# Altium schematic symbol library Memory_RAM.SchLib: 45 symbols
Pins are listed as number, name and electrical type; pins without a type are passive.

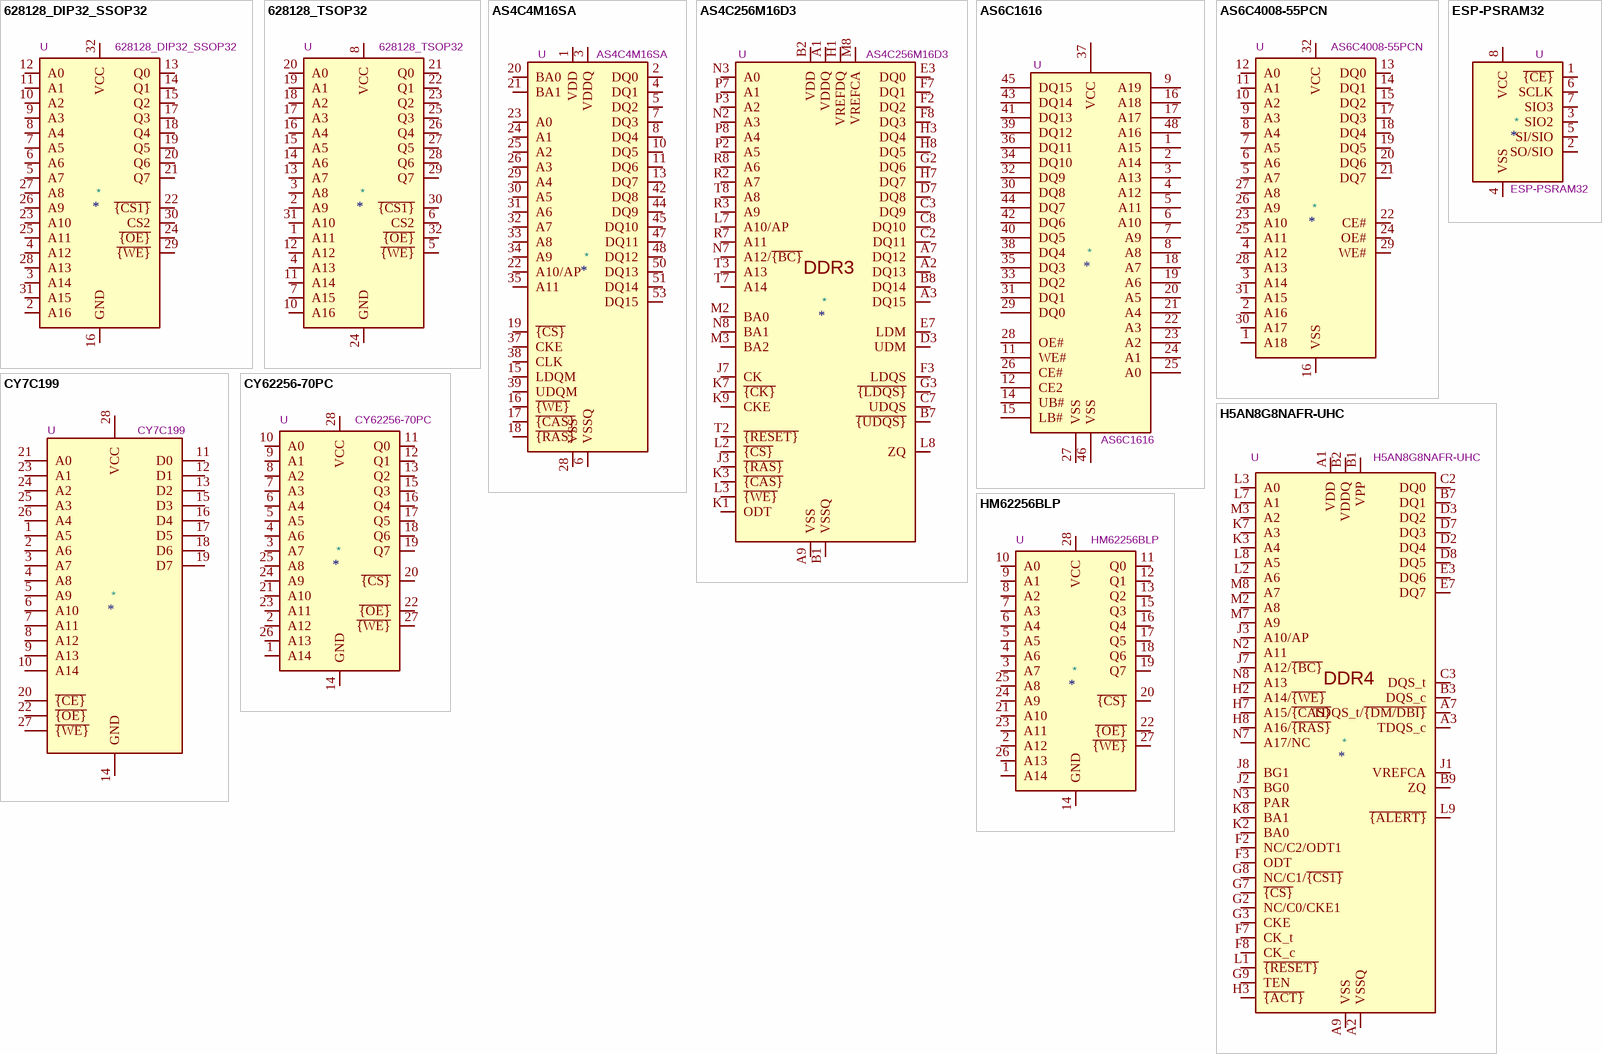
[diagram p0: symbols 628128_DIP32_SSOP32 to HM62256BLP]

## 628128_DIP32_SSOP32
designator *  value 628128_DIP32_SSOP32  Reference: U
ki_keywords: RAM SRAM CMOS MEMORY; ki_description: 128K x 8 High-Speed CMOS Static RAM, 55/70ns, DIP-32/SSOP-32; ki_fp_filters: DIP*W15.24mm* SSOP*11.305x20.495mm*P1.27mm*; Datasheet: http://www.futurlec.com/Datasheet/Memory/628128.pdf
pins: 1 NC hidden, 2 A16, 3 A14, 4 A12, 5 A7, 6 A6, 7 A5, 8 A4, 9 A3, 10 A2, 11 A1, 12 A0, 13 Q0, 14 Q1, 15 Q2, 16 GND, 17 Q3, 18 Q4, 19 Q5, 20 Q6, 21 Q7, 22 ~{{CS1}}, 23 A10, 24 ~{{OE}}, 25 A11, 26 A9, 27 A8, 28 A13, 29 ~{{WE}}, 30 CS2, 31 A15, 32 VCC

## 628128_TSOP32
designator *  value 628128_TSOP32  Reference: U
ki_keywords: RAM SRAM CMOS MEMORY; ki_description: 128K x 8 High-Speed CMOS Static RAM, 55/70ns, TSOP-I-32; ki_fp_filters: TSOP?I*11.8x8mm*P0.5mm* TSOP?I*18.4x8mm*P0.5mm*; Datasheet: http://www.futurlec.com/Datasheet/Memory/628128.pdf
pins: 1 A11, 2 A9, 3 A8, 4 A13, 5 ~{{WE}}, 6 CS2, 7 A15, 8 VCC, 9 NC hidden, 10 A16, 11 A14, 12 A12, 13 A7, 14 A6, 15 A5, 16 A4, 17 A3, 18 A2, 19 A1, 20 A0, 21 Q0, 22 Q1, 23 Q2, 24 GND, 25 Q3, 26 Q4, 27 Q5, 28 Q6, 29 Q7, 30 ~{{CS1}}, 31 A10, 32 ~{{OE}}

## AS4C4M16SA
designator *  value AS4C4M16SA  Reference: U
ki_keywords: SDRAM Synchronous DRAM PC166 PC143 64Mb 16Mbx4 MEMORY; ki_description: 64M – (4M x 16 bit) Synchronous DRAM (SDRAM), TSOP-II-54; ki_fp_filters: TSOP?II*22.2x10.16mm*P0.8mm*; Footprint: Package_SO:TSOP-II-54_22.2x10.16mm_P0.8mm; Datasheet: https://www.alliancememory.com/wp-content/uploads/pdf/dram/64M-AS4C4M16SA-CI_v3.0_March%202015.pdf
pins: 1 VDD, 2 DQ0, 3 VDDQ, 4 DQ1, 5 DQ2, 6 VSSQ, 7 DQ3, 8 DQ4, 9 VDDQ hidden, 10 DQ5, 11 DQ6, 12 VSSQ hidden, 13 DQ7, 14 VDD hidden, 15 LDQM, 16 ~{{WE}}, 17 ~{{CAS}}, 18 ~{{RAS}}, 19 ~{{CS}}, 20 BA0, 21 BA1, 22 A10/AP, 23 A0, 24 A1, 25 A2, 26 A3, 27 VDD hidden, 28 VSS, 29 A4, 30 A5, 31 A6, 32 A7, 33 A8, 34 A9, 35 A11, 36 NC hidden, 37 CKE, 38 CLK, 39 UDQM, 40 NC/RFU hidden, 41 VSS hidden, 42 DQ8, 43 VDDQ hidden, 44 DQ9, 45 DQ10, 46 VSSQ hidden, 47 DQ11, 48 DQ12, 49 VDDQ hidden, 50 DQ13, 51 DQ14, 52 VSSQ hidden, 53 DQ15, 54 VSS hidden

## AS4C256M16D3
designator *  value AS4C256M16D3  Reference: U
ki_keywords: DDR3 DRAM MEMORY; ki_description: 4Gb (256Mx16 bit) Double Data Rate 3 Synchronous DRAM; ki_fp_filters: BGA*9.0x13.0mm*P0.8mm*; Footprint: Package_BGA:BGA-96_9.0x13.0mm_Layout2x3x16_P0.8mm; Datasheet: https://www.alliancememory.com/wp-content/uploads/pdf/ddr3/4GB-AS4C256M16D3.pdf
pins: A1 VDDQ, A2 DQ13, A3 DQ15, A7 DQ12, A8 VDDQ hidden, A9 VSS, B1 VSSQ, B2 VDD, B3 VSS hidden, B7 ~{{UDQS}}, B8 DQ14, B9 VSSQ hidden, C1 VDDQ hidden, C2 DQ11, C3 DQ9, C7 UDQS, C8 DQ10, C9 VDDQ hidden, D1 VSSQ hidden, D2 VDDQ hidden, D3 UDM, D7 DQ8, D8 VSSQ hidden, D9 VDD hidden, E1 VSS hidden, E2 VSSQ hidden, E3 DQ0, E7 LDM, E8 VSSQ hidden, E9 VDDQ hidden, F1 VDDQ hidden, F2 DQ2, F3 LDQS, F7 DQ1, F8 DQ3, F9 VSSQ hidden, G1 VSSQ hidden, G2 DQ6, G3 ~{{LDQS}}, G7 VDD hidden, G8 VSS hidden, G9 VSSQ hidden, H1 VREFDQ, H2 VDDQ hidden, H3 DQ4, H7 DQ7, H8 DQ5, H9 VDDQ hidden, J1 NC hidden, J2 VSS hidden, J3 ~{{RAS}}, J7 CK, J8 VSS hidden, J9 NC hidden, K1 ODT, K2 VDD hidden, K3 ~{{CAS}}, K7 ~{{CK}}, K8 VDD hidden, K9 CKE, L1 NC hidden, L2 ~{{CS}}, L3 ~{{WE}}, L7 A10/AP, L8 ZQ, L9 NC hidden, M1 VSS hidden, M2 BA0, M3 BA2, M7 NC hidden, M8 VREFCA, M9 VSS hidden, N1 VDD hidden, N2 A3, N3 A0, N7 A12/~{{BC}}, N8 BA1, N9 VDD hidden, P1 VSS hidden, P2 A5, P3 A2, P7 A1, P8 A4, P9 VSS hidden, R1 VDD hidden, R2 A7, R3 A9, R7 A11, R8 A6, R9 VDD hidden, T1 VSS hidden, T2 ~{{RESET}}, T3 A13, T7 A14, T8 A8, T9 VSS hidden
text: DDR3

## AS6C1616
designator *  value AS6C1616  Reference: U
ki_keywords: memory SRAM; ki_description: 1024k x 16 bit low power CMOS SRAM; ki_fp_filters: TSOP?I*18.4x12mm*P0.5mm*; Footprint: Package_SO:TSOP-I-48_18.4x12mm_P0.5mm; Datasheet: https://www.alliancememory.com/wp-content/uploads/pdf/AS6C1616-TSOPI.pdf
pins: 1 A15, 2 A14, 3 A13, 4 A12, 5 A11, 6 A10, 7 A9, 8 A8, 9 A19, 10 NC hidden, 11 WE#, 12 CE2, 13 NC hidden, 14 UB#, 15 LB#, 16 A18, 17 A17, 18 A7, 19 A6, 20 A5, 21 A4, 22 A3, 23 A2, 24 A1, 25 A0, 26 CE#, 27 VSS, 28 OE#, 29 DQ0, 30 DQ8, 31 DQ1, 32 DQ9, 33 DQ2, 34 DQ10, 35 DQ3, 36 DQ11, 37 VCC, 38 DQ4, 39 DQ12, 40 DQ5, 41 DQ13, 42 DQ6, 43 DQ14, 44 DQ7, 45 DQ15, 46 VSS, 47 NC hidden, 48 A16

## AS6C4008-55PCN
designator *  value AS6C4008-55PCN  Reference: U
ki_keywords: RAM SRAM CMOS MEMORY; ki_description: 512K x 8 Low Power CMOS RAM, DIP-32; ki_fp_filters: DIP*W15.24mm*; Footprint: Package_DIP:DIP-32_W15.24mm; Datasheet: https://www.alliancememory.com/wp-content/uploads/pdf/AS6C4008.pdf
pins: 1 A18, 2 A16, 3 A14, 4 A12, 5 A7, 6 A6, 7 A5, 8 A4, 9 A3, 10 A2, 11 A1, 12 A0, 13 DQ0, 14 DQ1, 15 DQ2, 16 VSS, 17 DQ3, 18 DQ4, 19 DQ5, 20 DQ6, 21 DQ7, 22 CE#, 23 A10, 24 OE#, 25 A11, 26 A9, 27 A8, 28 A13, 29 WE#, 30 A17, 31 A15, 32 VCC

## CY7C199
designator *  value CY7C199  Reference: U
pins: 1 A5, 2 A6, 3 A7, 4 A8, 5 A9, 6 A10, 7 A11, 8 A12, 9 A13, 10 A14, 11 D0, 12 D1, 13 D2, 14 GND, 15 D3, 16 D4, 17 D5, 18 D6, 19 D7, 20 ~{{CE}}, 21 A0, 22 ~{{OE}}, 23 A1, 24 A2, 25 A3, 26 A4, 27 ~{{WE}}, 28 VCC

## CY62256-70PC
designator *  value CY62256-70PC  Reference: U
ki_keywords: RAM SRAM CMOS MEMORY; ki_description: 256K (32K x 8) Static RAM, 70ns, DIP-28; ki_fp_filters: DIP*W15.24mm*; Footprint: Package_DIP:DIP-28_W15.24mm; Datasheet: https://ecee.colorado.edu/~mcclurel/Cypress_SRAM_CY62256.pdf
pins: 1 A14, 2 A12, 3 A7, 4 A6, 5 A5, 6 A4, 7 A3, 8 A2, 9 A1, 10 A0, 11 Q0, 12 Q1, 13 Q2, 14 GND, 15 Q3, 16 Q4, 17 Q5, 18 Q6, 19 Q7, 20 ~{{CS}}, 21 A10, 22 ~{{OE}}, 23 A11, 24 A9, 25 A8, 26 A13, 27 ~{{WE}}, 28 VCC

## ESP-PSRAM32
designator *  value ESP-PSRAM32  Reference: U
ki_keywords: 32 Mbit serial pseudo SRAM MEMORY; ki_description: 32 Mbit serial pseudo SRAM device organized as 4Mx8 bits, 1.8 VCC, SOIC8 (SOP8); ki_fp_filters: SOIC*3.9x4.9mm?P1.27mm*; Footprint: Package_SO:SOIC-8_3.9x4.9mm_P1.27mm; Datasheet: https://www.espressif.com/sites/default/files/documentation/esp-psram32_datasheet_en.pdf
pins: 1 ~{{CE}}, 2 SO/SIO, 3 SIO2, 4 VSS, 5 SI/SIO, 6 SCLK, 7 SIO3, 8 VCC

## H5AN8G8NAFR-UHC
designator *  value H5AN8G8NAFR-UHC  Reference: U
ki_keywords: DDR4 DRAM MEMORY; ki_description: 8Gb CMOS Double Data Rate IV Synchronous RAM; ki_fp_filters: FBGA*7.5x11mm*P0.8mm*; Footprint: Package_BGA:FBGA-78_7.5x11mm_Layout2x3x13_P0.8mm; Datasheet: https://www.skhynix.com/product/filedata/fileDownload.do?seq=7687
pins: A1 VDD, A2 VSSQ, A3 TDQS_c, A7 TDQS_t/~{{DM/DBI}}, A8 VSSQ hidden, A9 VSS, B1 VPP, B2 VDDQ, B3 DQS_c, B7 DQ1, B8 VDDQ hidden, B9 ZQ, C1 VDDQ hidden, C2 DQ0, C3 DQS_t, C7 VDD hidden, C8 VSS hidden, C9 VDDQ hidden, D1 VSSQ hidden, D2 DQ4, D3 DQ2, D7 DQ3, D8 DQ5, D9 VSSQ hidden, E1 VSS hidden, E2 VDDQ hidden, E3 DQ6, E7 DQ7, E8 VDDQ hidden, E9 VSS hidden, F1 VDD hidden, F2 NC/C2/ODT1, F3 ODT, F7 CK_t, F8 CK_c, F9 VDD hidden, G1 VSS hidden, G2 NC/C0/CKE1, G3 CKE, G7 ~{{CS}}, G8 NC/C1/~{{CS1}}, G9 TEN, H1 VDD hidden, H2 A14/~{{WE}}, H3 ~{{ACT}}, H7 A15/~{{CAS}}, H8 A16/~{{RAS}}, H9 VSS hidden, J1 VREFCA, J2 BG0, J3 A10/AP, J7 A12/~{{BC}}, J8 BG1, J9 VDD hidden, K1 VSS hidden, K2 BA0, K3 A4, K7 A3, K8 BA1, K9 VSS hidden, L1 ~{{RESET}}, L2 A6, L3 A0, L7 A1, L8 A5, L9 ~{{ALERT}}, M1 VDD hidden, M2 A8, M3 A2, M7 A9, M8 A7, M9 VPP hidden, N1 VSS hidden, N2 A11, N3 PAR, N7 A17/NC, N8 A13, N9 VDD hidden
text: DDR4

## HM62256BLP
designator *  value HM62256BLP  Reference: U
ki_keywords: RAM SRAM CMOS MEMORY; ki_description: 32,768-word × 8-bit High Speed CMOS Static RAM, 70ns, DIP-28; ki_fp_filters: DIP*W15.24mm*; Footprint: Package_DIP:DIP-28_W15.24mm; Datasheet: https://web.mit.edu/6.115/www/document/62256.pdf
pins: 1 A14, 2 A12, 3 A7, 4 A6, 5 A5, 6 A4, 7 A3, 8 A2, 9 A1, 10 A0, 11 Q0, 12 Q1, 13 Q2, 14 GND, 15 Q3, 16 Q4, 17 Q5, 18 Q6, 19 Q7, 20 ~{{CS}}, 21 A10, 22 ~{{OE}}, 23 A11, 24 A9, 25 A8, 26 A13, 27 ~{{WE}}, 28 VCC

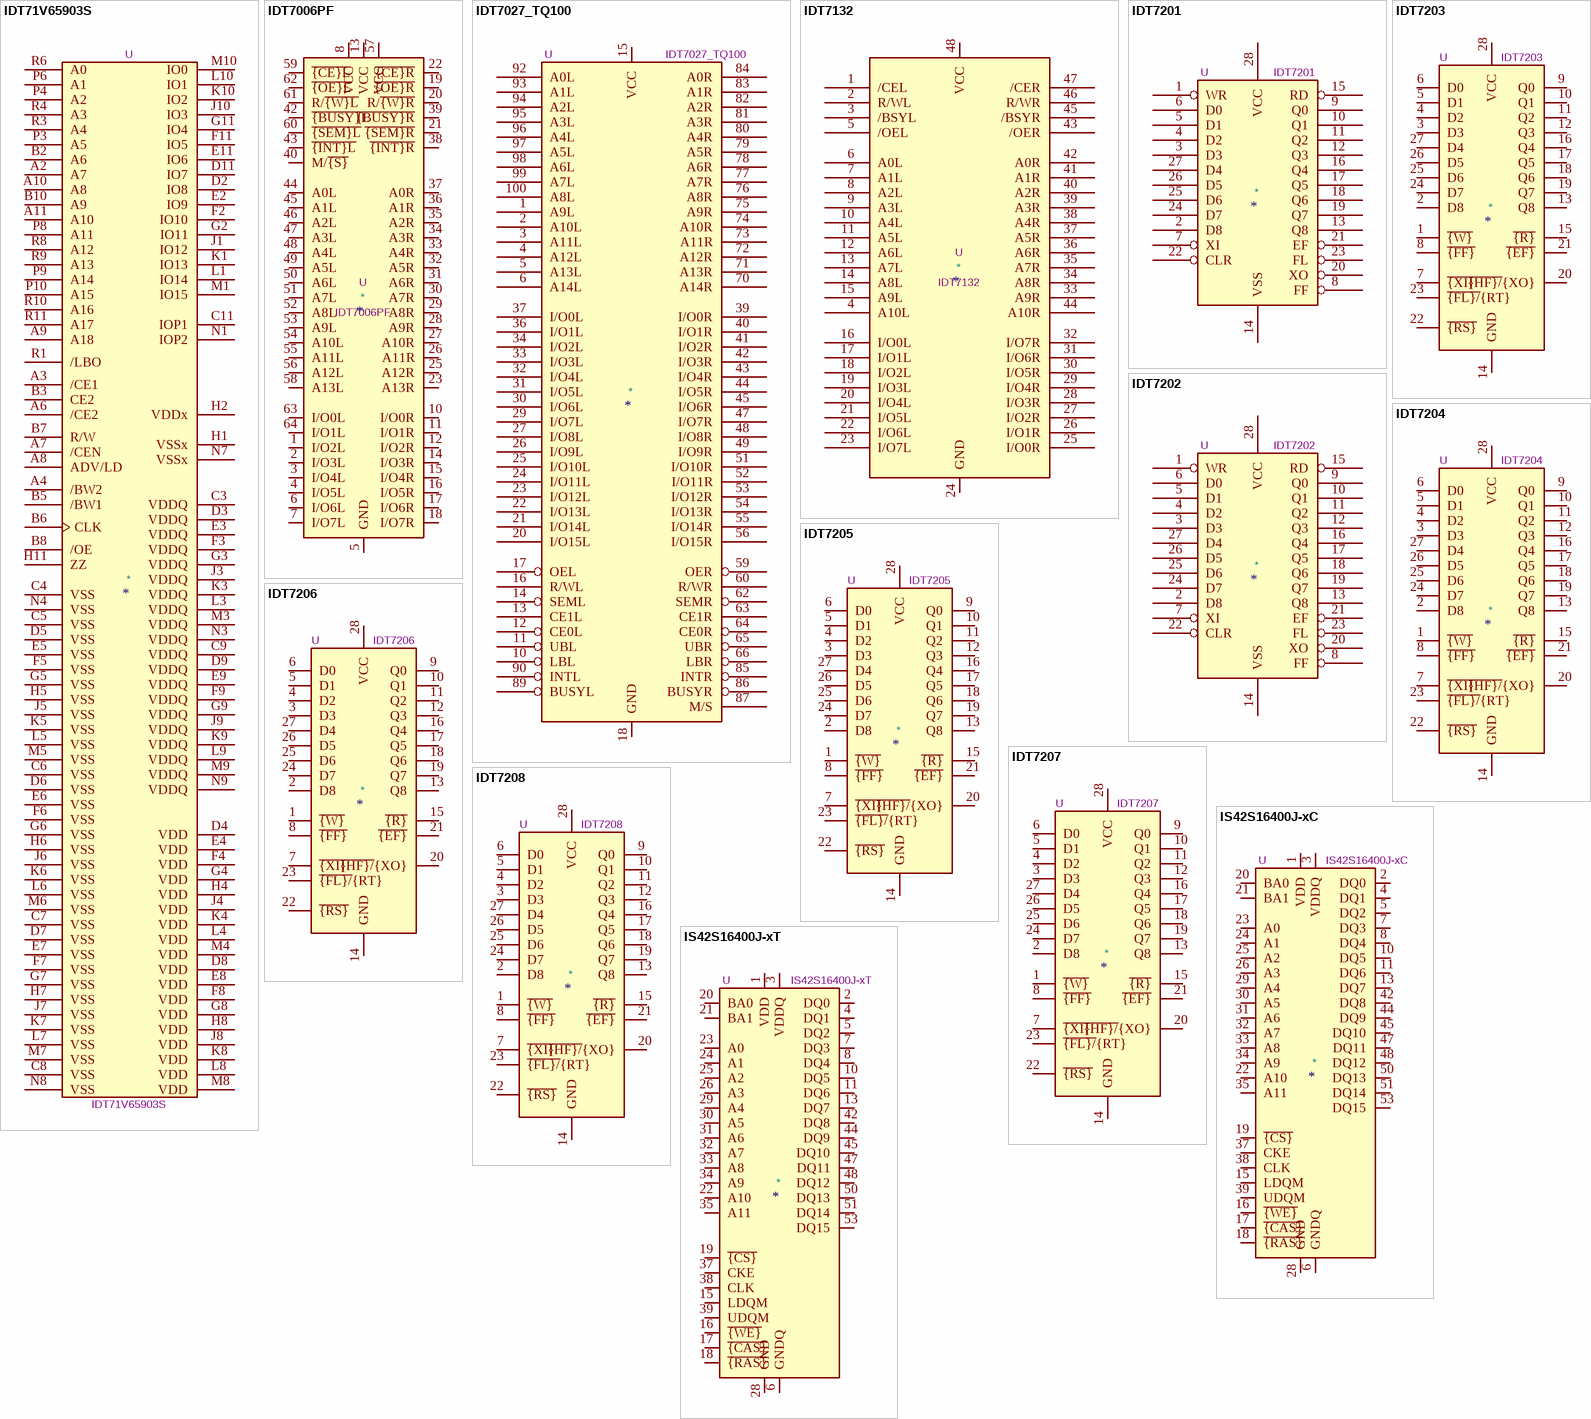
[diagram p1: symbols IDT71V65903S to IS42S16400J-xT]

## IDT71V65903S
designator *  value IDT71V65903S  Reference: U
ki_description: 165 pins BGA 3.3V high-speed 9 Megabit synchronous SRAMs 512K x 18 (or  256K x 36)
pins: A2 A7, A3 /CE1, A4 /BW2, A6 /CE2, A7 /CEN, A8 ADV/LD, A9 A18, A10 A8, A11 A10, B2 A6, B3 CE2, B5 /BW1, B6 CLK, B7 R/W, B8 /OE, B10 A9, C3 VDDQ, C4 VSS, C5 VSS, C6 VSS, C7 VSS, C8 VSS, C9 VDDQ, C11 IOP1, D2 IO8, D3 VDDQ, D4 VDD, D5 VSS, D6 VSS, D7 VSS, D8 VDD, D9 VDDQ, D11 IO7, E2 IO9, E3 VDDQ, E4 VDD, E5 VSS, E6 VSS, E7 VSS, E8 VDD, E9 VDDQ, E11 IO6, F2 IO10, F3 VDDQ, F4 VDD, F5 VSS, F6 VSS, F7 VSS, F8 VDD, F9 VDDQ, F11 IO5, G2 IO11, G3 VDDQ, G4 VDD, G5 VSS, G6 VSS, G7 VSS, G8 VDD, G9 VDDQ, G11 IO4, H1 VSSx, H2 VDDx, H4 VDD, H5 VSS, H6 VSS, H7 VSS, H8 VDD, H11 ZZ, J1 IO12, J3 VDDQ, J4 VDD, J5 VSS, J6 VSS, J7 VSS, J8 VDD, J9 VDDQ, J10 IO3, K1 IO13, K3 VDDQ, K4 VDD, K5 VSS, K6 VSS, K7 VSS, K8 VDD, K9 VDDQ, K10 IO2, L1 IO14, L3 VDDQ, L4 VDD, L5 VSS, L6 VSS, L7 VSS, L8 VDD, L9 VDDQ, L10 IO1, M1 IO15, M3 VDDQ, M4 VDD, M5 VSS, M6 VSS, M7 VSS, M8 VDD, M9 VDDQ, M10 IO0, N1 IOP2, N3 VDDQ, N4 VSS, N7 VSSx, N8 VSS, N9 VDDQ, P3 A5, P4 A2, P6 A1, P8 A11, P9 A14, P10 A15, R1 /LBO, R3 A4, R4 A3, R6 A0, R8 A12, R9 A13, R10 A16, R11 A17

## IDT7006PF
designator *  value IDT7006PF  Reference: U
ki_keywords: dual-port ram; ki_description: 16K x 8 Dual-Port SRAM, TQFP-64; ki_fp_filters: TQFP*14x14mm*P0.8mm*; Footprint: Package_QFP:TQFP-64_14x14mm_P0.8mm; Datasheet: https://www.idt.com/document/dst/7006-data-sheet
pins: 1 I/O2L, 2 I/O3L, 3 I/O4L, 4 I/O5L, 5 GND, 6 I/O6L, 7 I/O7L, 8 VCC, 9 GND hidden, 10 I/O0R, 11 I/O1R, 12 I/O2R, 13 VCC, 14 I/O3R, 15 I/O4R, 16 I/O5R, 17 I/O6R, 18 I/O7R, 19 ~{{OE}R}, 20 R/~{{W}R}, 21 ~{{SEM}R}, 22 ~{{CE}R}, 23 A13R, 24 GND hidden, 25 A12R, 26 A11R, 27 A10R, 28 A9R, 29 A8R, 30 A7R, 31 A6R, 32 A5R, 33 A4R, 34 A3R, 35 A2R, 36 A1R, 37 A0R, 38 ~{{INT}R}, 39 ~{{BUSY}R}, 40 M/~{{S}}, 41 GND hidden, 42 ~{{BUSY}L}, 43 ~{{INT}L}, 44 A0L, 45 A1L, 46 A2L, 47 A3L, 48 A4L, 49 A5L, 50 A6L, 51 A7L, 52 A8L, 53 A9L, 54 A10L, 55 A11L, 56 A12L, 57 VCC, 58 A13L, 59 ~{{CE}L}, 60 ~{{SEM}L}, 61 R/~{{W}L}, 62 ~{{OE}L}, 63 I/O0L, 64 I/O1L

## IDT7027_TQ100
designator *  value IDT7027_TQ100  Reference: U
pins: 1 A9L, 2 A10L, 3 A11L, 4 A12L, 5 A13L, 6 A14L, 10 LBL, 11 UBL, 12 CE0L, 13 CE1L, 14 SEML, 15 VCC, 16 R/WL, 17 OEL, 18 GND, 19 GND hidden, 20 I/O15L, 21 I/O14L, 22 I/O13L, 23 I/O12L, 24 I/O11L, 25 I/O10L, 26 I/O9L, 27 I/O8L, 28 VCC hidden, 29 I/O7L, 30 I/O6L, 31 I/O5L, 32 I/O4L, 33 I/O3L, 34 I/O2L, 35 GND hidden, 36 I/O1L, 37 I/O0L, 38 GND hidden, 39 I/O0R, 40 I/O1R, 41 I/O2R, 42 I/O3R, 43 I/O4R, 44 I/O5R, 45 I/O6R, 46 VCC hidden, 47 I/O7R, 48 I/O8R, 49 I/O9R, 51 I/O10R, 52 I/O11R, 53 I/O12R, 54 I/O13R, 55 I/O14R, 56 I/O15R, 57 GND hidden, 58 GND hidden, 59 OER, 60 R/WR, 61 GND hidden, 62 SEMR, 63 CE1R, 64 CE0R, 65 UBR, 66 LBR, 70 A14R, 71 A13R, 72 A12R, 73 A11R, 74 A10R, 75 A9R, 76 A8R, 77 A7R, 78 A6R, 79 A5R, 80 A4R, 81 A3R, 82 A2R, 83 A1R, 84 A0R, 85 INTR, 86 BUSYR, 87 M/S, 88 GND hidden, 89 BUSYL, 90 INTL, 92 A0L, 93 A1L, 94 A2L, 95 A3L, 96 A4L, 97 A5L, 98 A6L, 99 A7L, 100 A8L

## IDT7132
designator *  value IDT7132  Reference: U
pins: 1 /CEL, 2 R/WL, 3 /BSYL, 4 A10L, 5 /OEL, 6 A0L, 7 A1L, 8 A2L, 9 A3L, 10 A4L, 11 A5L, 12 A6L, 13 A7L, 14 A8L, 15 A9L, 16 I/O0L, 17 I/O1L, 18 I/O2L, 19 I/O3L, 20 I/O4L, 21 I/O5L, 22 I/O6L, 23 I/O7L, 24 GND, 25 I/O0R, 26 I/O1R, 27 I/O2R, 28 I/O3R, 29 I/O4R, 30 I/O5R, 31 I/O6R, 32 I/O7R, 33 A9R, 34 A8R, 35 A7R, 36 A6R, 37 A5R, 38 A4R, 39 A3R, 40 A2R, 41 A1R, 42 A0R, 43 /OER, 44 A10R, 45 /BSYR, 46 R/WR, 47 /CER, 48 VCC

## IDT7201
designator *  value IDT7201  Reference: U
pins: 1 WR, 2 D8, 3 D3, 4 D2, 5 D1, 6 D0, 7 XI, 8 FF, 9 Q0, 10 Q1, 11 Q2, 12 Q3, 13 Q8, 14 VSS, 15 RD, 16 Q4, 17 Q5, 18 Q6, 19 Q7, 20 XO, 21 EF, 22 CLR, 23 FL, 24 D7, 25 D6, 26 D5, 27 D4, 28 VCC

## IDT7202
designator *  value IDT7202  Reference: U
pins: 1 WR, 2 D8, 3 D3, 4 D2, 5 D1, 6 D0, 7 XI, 8 FF, 9 Q0, 10 Q1, 11 Q2, 12 Q3, 13 Q8, 14 VSS, 15 RD, 16 Q4, 17 Q5, 18 Q6, 19 Q7, 20 XO, 21 EF, 22 CLR, 23 FL, 24 D7, 25 D6, 26 D5, 27 D4, 28 VCC

## IDT7203
designator *  value IDT7203  Reference: U
ki_keywords: asynchronous fifo memory; ki_description: 2048x9 CMOS Asynchronous FIFO, DIP-28; ki_fp_filters: DIP*7.62mm*; Footprint: Package_DIP:DIP-28_W7.62mm; Datasheet: http://www.idt.com/document/7203-7208-datasheet
pins: 1 ~{{W}}, 2 D8, 3 D3, 4 D2, 5 D1, 6 D0, 7 ~{{XI}}, 8 ~{{FF}}, 9 Q0, 10 Q1, 11 Q2, 12 Q3, 13 Q8, 14 GND, 15 ~{{R}}, 16 Q4, 17 Q5, 18 Q6, 19 Q7, 20 ~{{HF}/}{XO}, 21 ~{{EF}}, 22 ~{{RS}}, 23 ~{{FL}/}{RT}, 24 D7, 25 D6, 26 D5, 27 D4, 28 VCC

## IDT7204
designator *  value IDT7204  Reference: U
ki_keywords: asynchronous fifo memory; ki_description: 4096x9 CMOS Asynchronous FIFO, DIP-28; ki_fp_filters: DIP*7.62mm*; Footprint: Package_DIP:DIP-28_W7.62mm; Datasheet: http://www.idt.com/document/7203-7208-datasheet
pins: 1 ~{{W}}, 2 D8, 3 D3, 4 D2, 5 D1, 6 D0, 7 ~{{XI}}, 8 ~{{FF}}, 9 Q0, 10 Q1, 11 Q2, 12 Q3, 13 Q8, 14 GND, 15 ~{{R}}, 16 Q4, 17 Q5, 18 Q6, 19 Q7, 20 ~{{HF}/}{XO}, 21 ~{{EF}}, 22 ~{{RS}}, 23 ~{{FL}/}{RT}, 24 D7, 25 D6, 26 D5, 27 D4, 28 VCC

## IDT7205
designator *  value IDT7205  Reference: U
ki_keywords: asynchronous fifo memory; ki_description: 8192x9 CMOS Asynchronous FIFO, DIP-28; ki_fp_filters: DIP*7.62mm*; Footprint: Package_DIP:DIP-28_W7.62mm; Datasheet: http://www.idt.com/document/7203-7208-datasheet
pins: 1 ~{{W}}, 2 D8, 3 D3, 4 D2, 5 D1, 6 D0, 7 ~{{XI}}, 8 ~{{FF}}, 9 Q0, 10 Q1, 11 Q2, 12 Q3, 13 Q8, 14 GND, 15 ~{{R}}, 16 Q4, 17 Q5, 18 Q6, 19 Q7, 20 ~{{HF}/}{XO}, 21 ~{{EF}}, 22 ~{{RS}}, 23 ~{{FL}/}{RT}, 24 D7, 25 D6, 26 D5, 27 D4, 28 VCC

## IDT7206
designator *  value IDT7206  Reference: U
ki_keywords: asynchronous fifo memory; ki_description: 16384x9 CMOS Asynchronous FIFO, DIP-28; ki_fp_filters: DIP*7.62mm*; Footprint: Package_DIP:DIP-28_W7.62mm; Datasheet: http://www.idt.com/document/7203-7208-datasheet
pins: 1 ~{{W}}, 2 D8, 3 D3, 4 D2, 5 D1, 6 D0, 7 ~{{XI}}, 8 ~{{FF}}, 9 Q0, 10 Q1, 11 Q2, 12 Q3, 13 Q8, 14 GND, 15 ~{{R}}, 16 Q4, 17 Q5, 18 Q6, 19 Q7, 20 ~{{HF}/}{XO}, 21 ~{{EF}}, 22 ~{{RS}}, 23 ~{{FL}/}{RT}, 24 D7, 25 D6, 26 D5, 27 D4, 28 VCC

## IDT7207
designator *  value IDT7207  Reference: U
ki_keywords: asynchronous fifo memory; ki_description: 32768x9 CMOS Asynchronous FIFO, DIP-28; ki_fp_filters: DIP*7.62mm*; Footprint: Package_DIP:DIP-28_W7.62mm; Datasheet: http://www.idt.com/document/7203-7208-datasheet
pins: 1 ~{{W}}, 2 D8, 3 D3, 4 D2, 5 D1, 6 D0, 7 ~{{XI}}, 8 ~{{FF}}, 9 Q0, 10 Q1, 11 Q2, 12 Q3, 13 Q8, 14 GND, 15 ~{{R}}, 16 Q4, 17 Q5, 18 Q6, 19 Q7, 20 ~{{HF}/}{XO}, 21 ~{{EF}}, 22 ~{{RS}}, 23 ~{{FL}/}{RT}, 24 D7, 25 D6, 26 D5, 27 D4, 28 VCC

## IDT7208
designator *  value IDT7208  Reference: U
ki_keywords: asynchronous fifo memory; ki_description: 65536x9 CMOS Asynchronous FIFO, DIP-28; ki_fp_filters: DIP*7.62mm*; Footprint: Package_DIP:DIP-28_W7.62mm; Datasheet: http://www.idt.com/document/7203-7208-datasheet
pins: 1 ~{{W}}, 2 D8, 3 D3, 4 D2, 5 D1, 6 D0, 7 ~{{XI}}, 8 ~{{FF}}, 9 Q0, 10 Q1, 11 Q2, 12 Q3, 13 Q8, 14 GND, 15 ~{{R}}, 16 Q4, 17 Q5, 18 Q6, 19 Q7, 20 ~{{HF}/}{XO}, 21 ~{{EF}}, 22 ~{{RS}}, 23 ~{{FL}/}{RT}, 24 D7, 25 D6, 26 D5, 27 D4, 28 VCC

## IS42S16400J-xC
designator *  value IS42S16400J-xC  Reference: U
ki_keywords: DRAM MEMORY; ki_description: 64Mb Synchronous DRAM, 1 Mb x 16 b x 4 Banks, Cu leadframe plated with matte Sn, TSOP-II-54; ki_fp_filters: TSOP?II*22.2x10.16mm*P0.8mm*; Footprint: Package_SO:TSOP-II-54_22.2x10.16mm_P0.8mm; Datasheet: http://www.issi.com/WW/pdf/42-45S16400J.pdf
pins: 1 VDD, 2 DQ0, 3 VDDQ, 4 DQ1, 5 DQ2, 6 GNDQ, 7 DQ3, 8 DQ4, 9 VDDQ hidden, 10 DQ5, 11 DQ6, 12 GNDQ hidden, 13 DQ7, 14 VDD hidden, 15 LDQM, 16 ~{{WE}}, 17 ~{{CAS}}, 18 ~{{RAS}}, 19 ~{{CS}}, 20 BA0, 21 BA1, 22 A10, 23 A0, 24 A1, 25 A2, 26 A3, 27 VDD hidden, 28 GND, 29 A4, 30 A5, 31 A6, 32 A7, 33 A8, 34 A9, 35 A11, 36 NC hidden, 37 CKE, 38 CLK, 39 UDQM, 40 NC hidden, 41 GND hidden, 42 DQ8, 43 VDDQ hidden, 44 DQ9, 45 DQ10, 46 GNDQ hidden, 47 DQ11, 48 DQ12, 49 VDDQ hidden, 50 DQ13, 51 DQ14, 52 GNDQ hidden, 53 DQ15, 54 GND hidden

## IS42S16400J-xT
designator *  value IS42S16400J-xT  Reference: U
ki_keywords: DRAM MEMORY; ki_description: 64Mb Synchronous DRAM, 1 Mb x 16 b x 4 Banks, Alloy42 leadframe plated with matte Sn, TSOP-II-54; ki_fp_filters: TSOP?II*22.2x10.16mm*P0.8mm*; Footprint: Package_SO:TSOP-II-54_22.2x10.16mm_P0.8mm; Datasheet: http://www.issi.com/WW/pdf/42-45S16400J.pdf
pins: 1 VDD, 2 DQ0, 3 VDDQ, 4 DQ1, 5 DQ2, 6 GNDQ, 7 DQ3, 8 DQ4, 9 VDDQ hidden, 10 DQ5, 11 DQ6, 12 GNDQ hidden, 13 DQ7, 14 VDD hidden, 15 LDQM, 16 ~{{WE}}, 17 ~{{CAS}}, 18 ~{{RAS}}, 19 ~{{CS}}, 20 BA0, 21 BA1, 22 A10, 23 A0, 24 A1, 25 A2, 26 A3, 27 VDD hidden, 28 GND, 29 A4, 30 A5, 31 A6, 32 A7, 33 A8, 34 A9, 35 A11, 36 NC hidden, 37 CKE, 38 CLK, 39 UDQM, 40 NC hidden, 41 GND hidden, 42 DQ8, 43 VDDQ hidden, 44 DQ9, 45 DQ10, 46 GNDQ hidden, 47 DQ11, 48 DQ12, 49 VDDQ hidden, 50 DQ13, 51 DQ14, 52 GNDQ hidden, 53 DQ15, 54 GND hidden

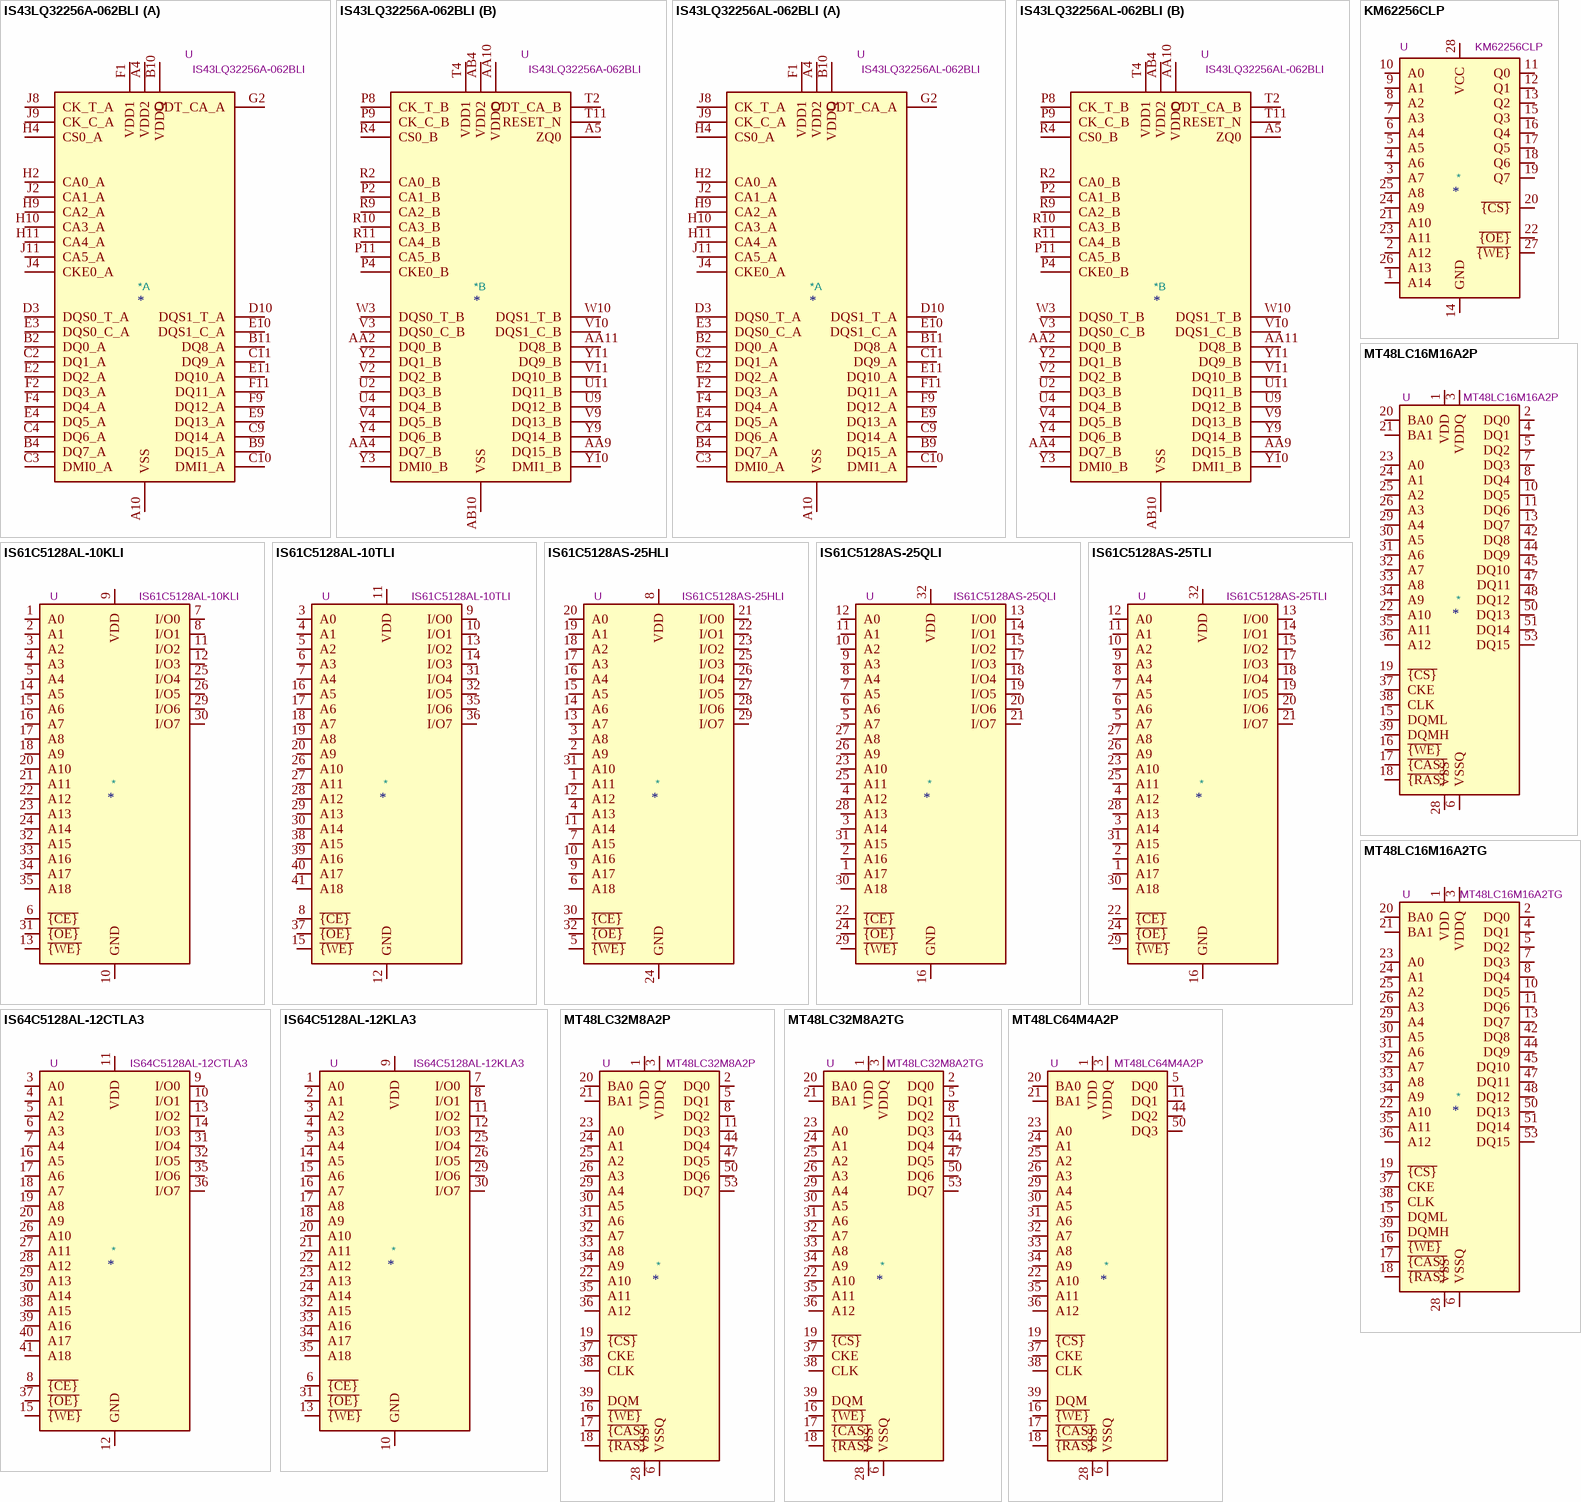
[diagram p2: symbols IS43LQ32256A-062BLI to MT48LC64M4A2P]

## IS43LQ32256A-062BLI
designator *  value IS43LQ32256A-062BLI  Reference: U
ki_keywords: DRAM MEMORY; ki_description: 256Mx32 bit Low Power Double Data Rate 4 (LPDDR4) SDRAM, 1600 MHz, Industrial, BGA-200; ki_fp_filters: BGA*10.0x14.5mm*P0.80x0.65mm*; Footprint: Package_BGA:BGA-200_10.0x14.5mm_Layout12x22_P0.80x0.65mm; Datasheet: http://www.issi.com/WW/pdf/43-46LQ32256A-AL.pdf
part A pins: A1 DNU hidden, A2 DNU hidden, A3 VSS hidden, A4 VDD2, A9 VDD2 hidden, A10 VSS, A11 DNU hidden, A12 DNU hidden, B1 DNU hidden, B2 DQ0_A, B3 VDDQ hidden, B4 DQ7_A, B5 VDDQ hidden, B8 VDDQ hidden, B9 DQ15_A, B10 VDDQ, B11 DQ8_A, B12 DNU hidden, C1 VSS hidden, C2 DQ1_A, C3 DMI0_A, C4 DQ6_A, C5 VSS hidden, C8 VSS hidden, C9 DQ14_A, C10 DMI1_A, C11 DQ9_A, C12 VSS hidden, D1 VDDQ hidden, D2 VSS hidden, D3 DQS0_T_A, D4 VSS hidden, D5 VDDQ hidden, D8 VDDQ hidden, D9 VSS hidden, D10 DQS1_T_A, D11 VSS hidden, D12 VDDQ hidden, E1 VSS hidden, E2 DQ2_A, E3 DQS0_C_A, E4 DQ5_A, E5 VSS hidden, E8 VSS hidden, E9 DQ13_A, E10 DQS1_C_A, E11 DQ10_A, E12 VSS hidden, F1 VDD1, F2 DQ3_A, F3 VDDQ hidden, F4 DQ4_A, F5 VDD2 hidden, F8 VDD2 hidden, F9 DQ12_A, F10 VDDQ hidden, F11 DQ11_A, F12 VDD1 hidden, G1 VSS hidden, G2 ODT_CA_A, G3 VSS hidden, G4 VDD1 hidden, G5 VSS hidden, G8 VSS hidden, G9 VDD1 hidden, G10 VSS hidden, G12 VSS hidden, H1 VDD2 hidden, H2 CA0_A, H3 NC hidden, H4 CS0_A, H5 VDD2 hidden, H8 VDD2 hidden, H9 CA2_A, H10 CA3_A, H11 CA4_A, H12 VDD2 hidden, J1 VSS hidden, J2 CA1_A, J3 VSS hidden, J4 CKE0_A, J5 NC hidden, J8 CK_T_A, J9 CK_C_A, J10 VSS hidden, J11 CA5_A, J12 VSS hidden, K1 VDD2 hidden, K2 VSS hidden, K3 VDD2 hidden, K4 VSS hidden, K5 NC hidden, K8 NC hidden, K9 VSS hidden, K10 VDD2 hidden, K11 VSS hidden, K12 VDD2 hidden
part B pins: A5 ZQ0, A8 NC hidden, AA1 DNU hidden, AA2 DQ0_B, AA3 VDDQ hidden, AA4 DQ7_B, AA5 VDDQ hidden, AA8 VDDQ hidden, AA9 DQ15_B, AA10 VDDQ, AA11 DQ8_B, AA12 DNU hidden, AB1 DNU hidden, AB2 DNU hidden, AB3 VSS hidden, AB4 VDD2, AB5 VSS hidden, AB8 VSS hidden, AB9 VDD2 hidden, AB10 VSS, AB11 DNU hidden, AB12 DNU hidden, G11 NC hidden, N1 VDD2 hidden, N2 VSS hidden, N3 VDD2 hidden, N4 VSS hidden, N5 NC hidden, N8 NC hidden, N9 VSS hidden, N10 VDD2 hidden, N11 VSS hidden, N12 VDD2 hidden, P1 VSS hidden, P2 CA1_B, P3 VSS hidden, P4 CKE0_B, P5 NC hidden, P8 CK_T_B, P9 CK_C_B, P10 VSS hidden, P11 CA5_B, P12 VSS hidden, R1 VDD2 hidden, R2 CA0_B, R3 NC hidden, R4 CS0_B, R5 VDD2 hidden, R8 VDD2 hidden, R9 CA2_B, R10 CA3_B, R11 CA4_B, R12 VDD2 hidden, T1 VSS hidden, T2 ODT_CA_B, T3 VSS hidden, T4 VDD1, T5 VSS hidden, T8 VSS hidden, T9 VDD1 hidden, T10 VSS hidden, T11 RESET_N, T12 VSS hidden, U1 VDD1 hidden, U2 DQ3_B, U3 VDDQ hidden, U4 DQ4_B, U5 VDD2 hidden, U8 VDD2 hidden, U9 DQ12_B, U10 VDDQ hidden, U11 DQ11_B, U12 VDD1 hidden, V1 VSS hidden, V2 DQ2_B, V3 DQS0_C_B, V4 DQ5_B, V5 VSS hidden, V8 VSS hidden, V9 DQ13_B, V10 DQS1_C_B, V11 DQ10_B, V12 VSS hidden, W1 VDDQ hidden, W2 VSS hidden, W3 DQS0_T_B, W4 VSS hidden, W5 VDDQ hidden, W8 VDDQ hidden, W9 VSS hidden, W10 DQS1_T_B, W11 VSS hidden, W12 VDDQ hidden, Y1 VSS hidden, Y2 DQ1_B, Y3 DMI0_B, Y4 DQ6_B, Y5 VSS hidden, Y8 VSS hidden, Y9 DQ14_B, Y10 DMI1_B, Y11 DQ9_B, Y12 VSS hidden

## IS43LQ32256AL-062BLI
designator *  value IS43LQ32256AL-062BLI  Reference: U
ki_keywords: DRAM MEMORY; ki_description: 256Mx32 bit Low Power Double Data Rate 4X (LPDDR4X) SDRAM, 1600 MHz, Industrial, BGA-200; ki_fp_filters: BGA*10.0x14.5mm*P0.80x0.65mm*; Footprint: Package_BGA:BGA-200_10.0x14.5mm_Layout12x22_P0.80x0.65mm; Datasheet: http://www.issi.com/WW/pdf/43-46LQ32256AL-AL.pdf
part A pins: A1 DNU hidden, A2 DNU hidden, A3 VSS hidden, A4 VDD2, A9 VDD2 hidden, A10 VSS, A11 DNU hidden, A12 DNU hidden, B1 DNU hidden, B2 DQ0_A, B3 VDDQ hidden, B4 DQ7_A, B5 VDDQ hidden, B8 VDDQ hidden, B9 DQ15_A, B10 VDDQ, B11 DQ8_A, B12 DNU hidden, C1 VSS hidden, C2 DQ1_A, C3 DMI0_A, C4 DQ6_A, C5 VSS hidden, C8 VSS hidden, C9 DQ14_A, C10 DMI1_A, C11 DQ9_A, C12 VSS hidden, D1 VDDQ hidden, D2 VSS hidden, D3 DQS0_T_A, D4 VSS hidden, D5 VDDQ hidden, D8 VDDQ hidden, D9 VSS hidden, D10 DQS1_T_A, D11 VSS hidden, D12 VDDQ hidden, E1 VSS hidden, E2 DQ2_A, E3 DQS0_C_A, E4 DQ5_A, E5 VSS hidden, E8 VSS hidden, E9 DQ13_A, E10 DQS1_C_A, E11 DQ10_A, E12 VSS hidden, F1 VDD1, F2 DQ3_A, F3 VDDQ hidden, F4 DQ4_A, F5 VDD2 hidden, F8 VDD2 hidden, F9 DQ12_A, F10 VDDQ hidden, F11 DQ11_A, F12 VDD1 hidden, G1 VSS hidden, G2 ODT_CA_A, G3 VSS hidden, G4 VDD1 hidden, G5 VSS hidden, G8 VSS hidden, G9 VDD1 hidden, G10 VSS hidden, G12 VSS hidden, H1 VDD2 hidden, H2 CA0_A, H3 NC hidden, H4 CS0_A, H5 VDD2 hidden, H8 VDD2 hidden, H9 CA2_A, H10 CA3_A, H11 CA4_A, H12 VDD2 hidden, J1 VSS hidden, J2 CA1_A, J3 VSS hidden, J4 CKE0_A, J5 NC hidden, J8 CK_T_A, J9 CK_C_A, J10 VSS hidden, J11 CA5_A, J12 VSS hidden, K1 VDD2 hidden, K2 VSS hidden, K3 VDD2 hidden, K4 VSS hidden, K5 NC hidden, K8 NC hidden, K9 VSS hidden, K10 VDD2 hidden, K11 VSS hidden, K12 VDD2 hidden
part B pins: A5 ZQ0, A8 NC hidden, AA1 DNU hidden, AA2 DQ0_B, AA3 VDDQ hidden, AA4 DQ7_B, AA5 VDDQ hidden, AA8 VDDQ hidden, AA9 DQ15_B, AA10 VDDQ, AA11 DQ8_B, AA12 DNU hidden, AB1 DNU hidden, AB2 DNU hidden, AB3 VSS hidden, AB4 VDD2, AB5 VSS hidden, AB8 VSS hidden, AB9 VDD2 hidden, AB10 VSS, AB11 DNU hidden, AB12 DNU hidden, G11 NC hidden, N1 VDD2 hidden, N2 VSS hidden, N3 VDD2 hidden, N4 VSS hidden, N5 NC hidden, N8 NC hidden, N9 VSS hidden, N10 VDD2 hidden, N11 VSS hidden, N12 VDD2 hidden, P1 VSS hidden, P2 CA1_B, P3 VSS hidden, P4 CKE0_B, P5 NC hidden, P8 CK_T_B, P9 CK_C_B, P10 VSS hidden, P11 CA5_B, P12 VSS hidden, R1 VDD2 hidden, R2 CA0_B, R3 NC hidden, R4 CS0_B, R5 VDD2 hidden, R8 VDD2 hidden, R9 CA2_B, R10 CA3_B, R11 CA4_B, R12 VDD2 hidden, T1 VSS hidden, T2 ODT_CA_B, T3 VSS hidden, T4 VDD1, T5 VSS hidden, T8 VSS hidden, T9 VDD1 hidden, T10 VSS hidden, T11 RESET_N, T12 VSS hidden, U1 VDD1 hidden, U2 DQ3_B, U3 VDDQ hidden, U4 DQ4_B, U5 VDD2 hidden, U8 VDD2 hidden, U9 DQ12_B, U10 VDDQ hidden, U11 DQ11_B, U12 VDD1 hidden, V1 VSS hidden, V2 DQ2_B, V3 DQS0_C_B, V4 DQ5_B, V5 VSS hidden, V8 VSS hidden, V9 DQ13_B, V10 DQS1_C_B, V11 DQ10_B, V12 VSS hidden, W1 VDDQ hidden, W2 VSS hidden, W3 DQS0_T_B, W4 VSS hidden, W5 VDDQ hidden, W8 VDDQ hidden, W9 VSS hidden, W10 DQS1_T_B, W11 VSS hidden, W12 VDDQ hidden, Y1 VSS hidden, Y2 DQ1_B, Y3 DMI0_B, Y4 DQ6_B, Y5 VSS hidden, Y8 VSS hidden, Y9 DQ14_B, Y10 DMI1_B, Y11 DQ9_B, Y12 VSS hidden

## IS61C5128AL-10KLI
designator *  value IS61C5128AL-10KLI  Reference: U
ki_keywords: SRAM MEMORY; ki_description: 512K x 8 HIGH-SPEED CMOS STATIC RAM, 10ns, SOJ-36; ki_fp_filters: SOJ*10.16x23.49mm*P1.27mm*; Footprint: Package_SO:SOJ-36_10.16x23.49mm_P1.27mm; Datasheet: http://www.issi.com/WW/pdf/61-64C5128AL.pdf
pins: 1 A0, 2 A1, 3 A2, 4 A3, 5 A4, 6 ~{{CE}}, 7 I/O0, 8 I/O1, 9 VDD, 10 GND, 11 I/O2, 12 I/O3, 13 ~{{WE}}, 14 A5, 15 A6, 16 A7, 17 A8, 18 A9, 19 NC hidden, 20 A10, 21 A11, 22 A12, 23 A13, 24 A14, 25 I/O4, 26 I/O5, 27 VDD hidden, 28 GND hidden, 29 I/O6, 30 I/O7, 31 ~{{OE}}, 32 A15, 33 A16, 34 A17, 35 A18, 36 NC hidden

## IS61C5128AL-10TLI
designator *  value IS61C5128AL-10TLI  Reference: U
ki_keywords: SRAM MEMORY; ki_description: 512K x 8 HIGH-SPEED CMOS STATIC RAM, 10ns, TSOP II-44; ki_fp_filters: TSOP*10.16x18.41mm*P0.8mm*; Footprint: Package_SO:TSOP-II-44_10.16x18.41mm_P0.8mm; Datasheet: http://www.issi.com/WW/pdf/61-64C5128AL.pdf
pins: 1 NC hidden, 2 NC hidden, 3 A0, 4 A1, 5 A2, 6 A3, 7 A4, 8 ~{{CE}}, 9 I/O0, 10 I/O1, 11 VDD, 12 GND, 13 I/O2, 14 I/O3, 15 ~{{WE}}, 16 A5, 17 A6, 18 A7, 19 A8, 20 A9, 21 NC hidden, 22 NC hidden, 23 NC hidden, 24 NC hidden, 25 NC hidden, 26 A10, 27 A11, 28 A12, 29 A13, 30 A14, 31 I/O4, 32 I/O5, 33 VDD hidden, 34 GND hidden, 35 I/O6, 36 I/O7, 37 ~{{OE}}, 38 A15, 39 A16, 40 A17, 41 A18, 42 NC hidden, 43 NC hidden, 44 NC hidden

## IS61C5128AS-25HLI
designator *  value IS61C5128AS-25HLI  Reference: U
ki_keywords: SRAM MEMORY; ki_description: 512K x 8 HIGH-SPEED CMOS STATIC RAM, 25ns, STSOP I-32; ki_fp_filters: TSOP*11.8x8mm*P0.5mm*; Footprint: Package_SO:TSOP-I-32_11.8x8mm_P0.5mm; Datasheet: http://www.issi.com/WW/pdf/61-64C5128AL.pdf
pins: 1 A11, 2 A9, 3 A8, 4 A13, 5 ~{{WE}}, 6 A18, 7 A15, 8 VDD, 9 A17, 10 A16, 11 A14, 12 A12, 13 A7, 14 A6, 15 A5, 16 A4, 17 A3, 18 A2, 19 A1, 20 A0, 21 I/O0, 22 I/O1, 23 I/O2, 24 GND, 25 I/O3, 26 I/O4, 27 I/O5, 28 I/O6, 29 I/O7, 30 ~{{CE}}, 31 A10, 32 ~{{OE}}

## IS61C5128AS-25QLI
designator *  value IS61C5128AS-25QLI  Reference: U
ki_keywords: SRAM MEMORY; ki_description: 512K x 8 HIGH-SPEED CMOS STATIC RAM, 25ns, SOP-32; ki_fp_filters: SSOP*11.305x20.495mm*P1.27mm*; Footprint: Package_SO:SSOP-32_11.305x20.495mm_P1.27mm; Datasheet: http://www.issi.com/WW/pdf/61-64C5128AL.pdf
pins: 1 A17, 2 A16, 3 A14, 4 A12, 5 A7, 6 A6, 7 A5, 8 A4, 9 A3, 10 A2, 11 A1, 12 A0, 13 I/O0, 14 I/O1, 15 I/O2, 16 GND, 17 I/O3, 18 I/O4, 19 I/O5, 20 I/O6, 21 I/O7, 22 ~{{CE}}, 23 A10, 24 ~{{OE}}, 25 A11, 26 A9, 27 A8, 28 A13, 29 ~{{WE}}, 30 A18, 31 A15, 32 VDD

## IS61C5128AS-25TLI
designator *  value IS61C5128AS-25TLI  Reference: U
ki_keywords: SRAM MEMORY; ki_description: 512K x 8 HIGH-SPEED CMOS STATIC RAM, 25ns, TSOP II-32; ki_fp_filters: TSOP*21.0x10.2mm*P1.27mm*; Footprint: Package_SO:TSOP-II-32_21.0x10.2mm_P1.27mm; Datasheet: http://www.issi.com/WW/pdf/61-64C5128AL.pdf
pins: 1 A17, 2 A16, 3 A14, 4 A12, 5 A7, 6 A6, 7 A5, 8 A4, 9 A3, 10 A2, 11 A1, 12 A0, 13 I/O0, 14 I/O1, 15 I/O2, 16 GND, 17 I/O3, 18 I/O4, 19 I/O5, 20 I/O6, 21 I/O7, 22 ~{{CE}}, 23 A10, 24 ~{{OE}}, 25 A11, 26 A9, 27 A8, 28 A13, 29 ~{{WE}}, 30 A18, 31 A15, 32 VDD

## IS64C5128AL-12CTLA3
designator *  value IS64C5128AL-12CTLA3  Reference: U
ki_keywords: SRAM MEMORY; ki_description: 512K x 8 HIGH-SPEED CMOS STATIC RAM, 12ns, TSOP II-44; ki_fp_filters: TSOP*10.16x18.41mm*P0.8mm*; Footprint: Package_SO:TSOP-II-44_10.16x18.41mm_P0.8mm; Datasheet: http://www.issi.com/WW/pdf/61-64C5128AL.pdf
pins: 1 NC hidden, 2 NC hidden, 3 A0, 4 A1, 5 A2, 6 A3, 7 A4, 8 ~{{CE}}, 9 I/O0, 10 I/O1, 11 VDD, 12 GND, 13 I/O2, 14 I/O3, 15 ~{{WE}}, 16 A5, 17 A6, 18 A7, 19 A8, 20 A9, 21 NC hidden, 22 NC hidden, 23 NC hidden, 24 NC hidden, 25 NC hidden, 26 A10, 27 A11, 28 A12, 29 A13, 30 A14, 31 I/O4, 32 I/O5, 33 VDD hidden, 34 GND hidden, 35 I/O6, 36 I/O7, 37 ~{{OE}}, 38 A15, 39 A16, 40 A17, 41 A18, 42 NC hidden, 43 NC hidden, 44 NC hidden

## IS64C5128AL-12KLA3
designator *  value IS64C5128AL-12KLA3  Reference: U
ki_keywords: SRAM MEMORY; ki_description: 512K x 8 HIGH-SPEED CMOS STATIC RAM, 12ns, SOJ-36; ki_fp_filters: SOJ*10.16x23.49mm*P1.27mm*; Footprint: Package_SO:SOJ-36_10.16x23.49mm_P1.27mm; Datasheet: http://www.issi.com/WW/pdf/61-64C5128AL.pdf
pins: 1 A0, 2 A1, 3 A2, 4 A3, 5 A4, 6 ~{{CE}}, 7 I/O0, 8 I/O1, 9 VDD, 10 GND, 11 I/O2, 12 I/O3, 13 ~{{WE}}, 14 A5, 15 A6, 16 A7, 17 A8, 18 A9, 19 NC hidden, 20 A10, 21 A11, 22 A12, 23 A13, 24 A14, 25 I/O4, 26 I/O5, 27 VDD hidden, 28 GND hidden, 29 I/O6, 30 I/O7, 31 ~{{OE}}, 32 A15, 33 A16, 34 A17, 35 A18, 36 NC hidden

## KM62256CLP
designator *  value KM62256CLP  Reference: U
ki_keywords: RAM SRAM CMOS MEMORY; ki_description: 32Kx8 bit Low Power CMOS Static RAM, 55/70ns, DIP-28; ki_fp_filters: DIP*W15.24mm*; Footprint: Package_DIP:DIP-28_W15.24mm; Datasheet: https://www.futurlec.com/Datasheet/Memory/62256.pdf
pins: 1 A14, 2 A12, 3 A7, 4 A6, 5 A5, 6 A4, 7 A3, 8 A2, 9 A1, 10 A0, 11 Q0, 12 Q1, 13 Q2, 14 GND, 15 Q3, 16 Q4, 17 Q5, 18 Q6, 19 Q7, 20 ~{{CS}}, 21 A10, 22 ~{{OE}}, 23 A11, 24 A9, 25 A8, 26 A13, 27 ~{{WE}}, 28 VCC

## MT48LC16M16A2P
designator *  value MT48LC16M16A2P  Reference: U
ki_keywords: SDRAM Synchronous DRAM PC100 PC133 256Mb 16Mbx16 MEMORY; ki_description: 256M – (16M x 16 bit) Synchronous DRAM (SDRAM), TSOP-II-54; ki_fp_filters: TSOP?II*22.2x10.16mm*P0.8mm*; Footprint: Package_SO:TSOP-II-54_22.2x10.16mm_P0.8mm; Datasheet: https://www.micron.com/-/media/client/global/documents/products/data-sheet/dram/256mb_sdr.pdf
pins: 1 VDD, 2 DQ0, 3 VDDQ, 4 DQ1, 5 DQ2, 6 VSSQ, 7 DQ3, 8 DQ4, 9 VDDQ hidden, 10 DQ5, 11 DQ6, 12 VSSQ hidden, 13 DQ7, 14 VDD hidden, 15 DQML, 16 ~{{WE}}, 17 ~{{CAS}}, 18 ~{{RAS}}, 19 ~{{CS}}, 20 BA0, 21 BA1, 22 A10, 23 A0, 24 A1, 25 A2, 26 A3, 27 VDD hidden, 28 VSS, 29 A4, 30 A5, 31 A6, 32 A7, 33 A8, 34 A9, 35 A11, 36 A12, 37 CKE, 38 CLK, 39 DQMH, 40 NC hidden, 41 VSS hidden, 42 DQ8, 43 VDDQ hidden, 44 DQ9, 45 DQ10, 46 VSSQ hidden, 47 DQ11, 48 DQ12, 49 VDDQ hidden, 50 DQ13, 51 DQ14, 52 VSSQ hidden, 53 DQ15, 54 VSS hidden

## MT48LC16M16A2TG
designator *  value MT48LC16M16A2TG  Reference: U
ki_keywords: SDRAM Synchronous DRAM PC100 PC133 256Mb 16Mbx16 MEMORY; ki_description: 256M – (16M x 16 bit) Synchronous DRAM (SDRAM), TSOP-II-54; ki_fp_filters: TSOP?II*22.2x10.16mm*P0.8mm*; Footprint: Package_SO:TSOP-II-54_22.2x10.16mm_P0.8mm; Datasheet: https://www.micron.com/-/media/client/global/documents/products/data-sheet/dram/256mb_sdr.pdf
pins: 1 VDD, 2 DQ0, 3 VDDQ, 4 DQ1, 5 DQ2, 6 VSSQ, 7 DQ3, 8 DQ4, 9 VDDQ hidden, 10 DQ5, 11 DQ6, 12 VSSQ hidden, 13 DQ7, 14 VDD hidden, 15 DQML, 16 ~{{WE}}, 17 ~{{CAS}}, 18 ~{{RAS}}, 19 ~{{CS}}, 20 BA0, 21 BA1, 22 A10, 23 A0, 24 A1, 25 A2, 26 A3, 27 VDD hidden, 28 VSS, 29 A4, 30 A5, 31 A6, 32 A7, 33 A8, 34 A9, 35 A11, 36 A12, 37 CKE, 38 CLK, 39 DQMH, 40 NC hidden, 41 VSS hidden, 42 DQ8, 43 VDDQ hidden, 44 DQ9, 45 DQ10, 46 VSSQ hidden, 47 DQ11, 48 DQ12, 49 VDDQ hidden, 50 DQ13, 51 DQ14, 52 VSSQ hidden, 53 DQ15, 54 VSS hidden

## MT48LC32M8A2P
designator *  value MT48LC32M8A2P  Reference: U
ki_keywords: SDRAM Synchronous DRAM PC100 PC133 256Mb 32Mbx8 MEMORY; ki_description: 256M – (32M x 8 bit) Synchronous DRAM (SDRAM), TSOP-II-54; ki_fp_filters: TSOP?II*22.2x10.16mm*P0.8mm*; Footprint: Package_SO:TSOP-II-54_22.2x10.16mm_P0.8mm; Datasheet: https://www.micron.com/-/media/client/global/documents/products/data-sheet/dram/256mb_sdr.pdf
pins: 1 VDD, 2 DQ0, 3 VDDQ, 4 NC hidden, 5 DQ1, 6 VSSQ, 7 NC hidden, 8 DQ2, 9 VDDQ hidden, 10 NC hidden, 11 DQ3, 12 VSSQ hidden, 13 NC hidden, 14 VDD hidden, 15 NC hidden, 16 ~{{WE}}, 17 ~{{CAS}}, 18 ~{{RAS}}, 19 ~{{CS}}, 20 BA0, 21 BA1, 22 A10, 23 A0, 24 A1, 25 A2, 26 A3, 27 VDD hidden, 28 VSS, 29 A4, 30 A5, 31 A6, 32 A7, 33 A8, 34 A9, 35 A11, 36 A12, 37 CKE, 38 CLK, 39 DQM, 40 NC hidden, 41 VSS hidden, 42 NC hidden, 43 VDDQ hidden, 44 DQ4, 45 NC hidden, 46 VSSQ hidden, 47 DQ5, 48 NC hidden, 49 VDDQ hidden, 50 DQ6, 51 NC hidden, 52 VSSQ hidden, 53 DQ7, 54 VSS hidden

## MT48LC32M8A2TG
designator *  value MT48LC32M8A2TG  Reference: U
ki_keywords: SDRAM Synchronous DRAM PC100 PC133 256Mb 32Mbx8 MEMORY; ki_description: 256M – (32M x 8 bit) Synchronous DRAM (SDRAM), TSOP-II-54; ki_fp_filters: TSOP?II*22.2x10.16mm*P0.8mm*; Footprint: Package_SO:TSOP-II-54_22.2x10.16mm_P0.8mm; Datasheet: https://www.micron.com/-/media/client/global/documents/products/data-sheet/dram/256mb_sdr.pdf
pins: 1 VDD, 2 DQ0, 3 VDDQ, 4 NC hidden, 5 DQ1, 6 VSSQ, 7 NC hidden, 8 DQ2, 9 VDDQ hidden, 10 NC hidden, 11 DQ3, 12 VSSQ hidden, 13 NC hidden, 14 VDD hidden, 15 NC hidden, 16 ~{{WE}}, 17 ~{{CAS}}, 18 ~{{RAS}}, 19 ~{{CS}}, 20 BA0, 21 BA1, 22 A10, 23 A0, 24 A1, 25 A2, 26 A3, 27 VDD hidden, 28 VSS, 29 A4, 30 A5, 31 A6, 32 A7, 33 A8, 34 A9, 35 A11, 36 A12, 37 CKE, 38 CLK, 39 DQM, 40 NC hidden, 41 VSS hidden, 42 NC hidden, 43 VDDQ hidden, 44 DQ4, 45 NC hidden, 46 VSSQ hidden, 47 DQ5, 48 NC hidden, 49 VDDQ hidden, 50 DQ6, 51 NC hidden, 52 VSSQ hidden, 53 DQ7, 54 VSS hidden

## MT48LC64M4A2P
designator *  value MT48LC64M4A2P  Reference: U
ki_keywords: SDRAM Synchronous DRAM PC100 PC133 256Mb 64Mbx4 MEMORY; ki_description: 256M – (64M x 4 bit) Synchronous DRAM (SDRAM), TSOP-II-54; ki_fp_filters: TSOP?II*22.2x10.16mm*P0.8mm*; Footprint: Package_SO:TSOP-II-54_22.2x10.16mm_P0.8mm; Datasheet: https://www.micron.com/-/media/client/global/documents/products/data-sheet/dram/256mb_sdr.pdf
pins: 1 VDD, 2 NC hidden, 3 VDDQ, 4 NC hidden, 5 DQ0, 6 VSSQ, 7 NC hidden, 8 NC hidden, 9 VDDQ hidden, 10 NC hidden, 11 DQ1, 12 VSSQ hidden, 13 NC hidden, 14 VDD hidden, 15 NC hidden, 16 ~{{WE}}, 17 ~{{CAS}}, 18 ~{{RAS}}, 19 ~{{CS}}, 20 BA0, 21 BA1, 22 A10, 23 A0, 24 A1, 25 A2, 26 A3, 27 VDD hidden, 28 VSS, 29 A4, 30 A5, 31 A6, 32 A7, 33 A8, 34 A9, 35 A11, 36 A12, 37 CKE, 38 CLK, 39 DQM, 40 NC hidden, 41 VSS hidden, 42 NC hidden, 43 VDDQ hidden, 44 DQ2, 45 NC hidden, 46 VSSQ hidden, 47 NC hidden, 48 NC hidden, 49 VDDQ hidden, 50 DQ3, 51 NC hidden, 52 VSSQ hidden, 53 NC hidden, 54 VSS hidden

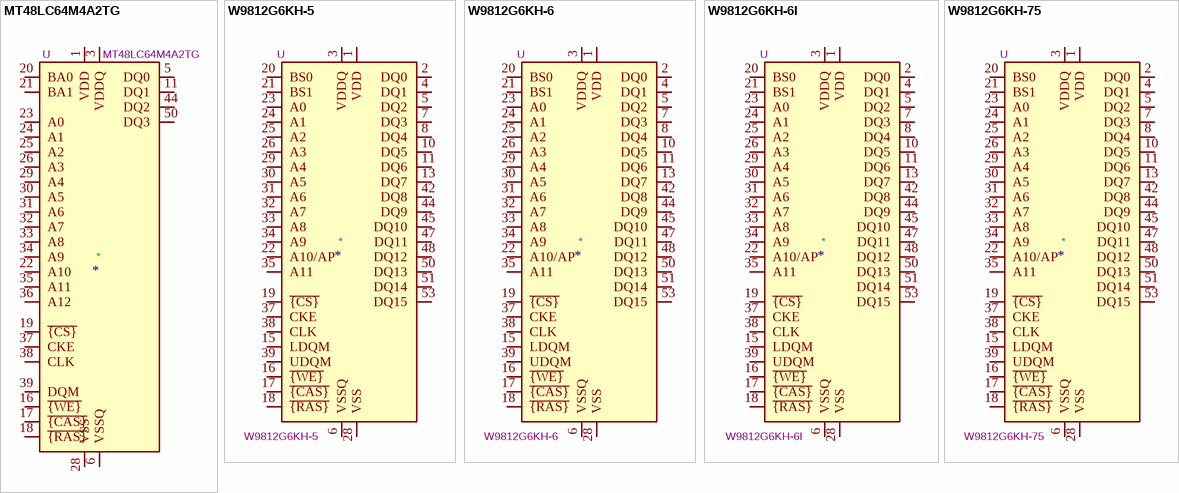
[diagram p3: symbols MT48LC64M4A2TG to W9812G6KH-75]

## MT48LC64M4A2TG
designator *  value MT48LC64M4A2TG  Reference: U
ki_keywords: SDRAM Synchronous DRAM PC100 PC133 256Mb 64Mbx4 MEMORY; ki_description: 256M – (64M x 4 bit) Synchronous DRAM (SDRAM), TSOP-II-54; ki_fp_filters: TSOP?II*22.2x10.16mm*P0.8mm*; Footprint: Package_SO:TSOP-II-54_22.2x10.16mm_P0.8mm; Datasheet: https://www.micron.com/-/media/client/global/documents/products/data-sheet/dram/256mb_sdr.pdf
pins: 1 VDD, 2 NC hidden, 3 VDDQ, 4 NC hidden, 5 DQ0, 6 VSSQ, 7 NC hidden, 8 NC hidden, 9 VDDQ hidden, 10 NC hidden, 11 DQ1, 12 VSSQ hidden, 13 NC hidden, 14 VDD hidden, 15 NC hidden, 16 ~{{WE}}, 17 ~{{CAS}}, 18 ~{{RAS}}, 19 ~{{CS}}, 20 BA0, 21 BA1, 22 A10, 23 A0, 24 A1, 25 A2, 26 A3, 27 VDD hidden, 28 VSS, 29 A4, 30 A5, 31 A6, 32 A7, 33 A8, 34 A9, 35 A11, 36 A12, 37 CKE, 38 CLK, 39 DQM, 40 NC hidden, 41 VSS hidden, 42 NC hidden, 43 VDDQ hidden, 44 DQ2, 45 NC hidden, 46 VSSQ hidden, 47 NC hidden, 48 NC hidden, 49 VDDQ hidden, 50 DQ3, 51 NC hidden, 52 VSSQ hidden, 53 NC hidden, 54 VSS hidden

## W9812G6KH-5
designator *  value W9812G6KH-5  Reference: U
ki_keywords: DRAM MEMORY; ki_description: 128Mb Synchronous DRAM, 2 Mb x 16 b x 4 Banks, 200 MHz, TSOP-II-54; ki_fp_filters: TSOP?II*22.2x10.16mm*P0.8mm*; Footprint: Package_SO:TSOP-II-54_22.2x10.16mm_P0.8mm; Datasheet: https://www.winbond.com/resource-files/da00-w9812g6khc1.pdf
pins: 1 VDD, 2 DQ0, 3 VDDQ, 4 DQ1, 5 DQ2, 6 VSSQ, 7 DQ3, 8 DQ4, 9 VDDQ hidden, 10 DQ5, 11 DQ6, 12 VSSQ hidden, 13 DQ7, 14 VDD hidden, 15 LDQM, 16 ~{{WE}}, 17 ~{{CAS}}, 18 ~{{RAS}}, 19 ~{{CS}}, 20 BS0, 21 BS1, 22 A10/AP, 23 A0, 24 A1, 25 A2, 26 A3, 27 VDD hidden, 28 VSS, 29 A4, 30 A5, 31 A6, 32 A7, 33 A8, 34 A9, 35 A11, 36 NC hidden, 37 CKE, 38 CLK, 39 UDQM, 40 NC hidden, 41 VSS hidden, 42 DQ8, 43 VDDQ hidden, 44 DQ9, 45 DQ10, 46 VSSQ hidden, 47 DQ11, 48 DQ12, 49 VDDQ hidden, 50 DQ13, 51 DQ14, 52 VSSQ hidden, 53 DQ15, 54 VSS hidden

## W9812G6KH-6
designator *  value W9812G6KH-6  Reference: U
ki_keywords: DRAM MEMORY; ki_description: 128Mb Synchronous DRAM, 2 Mb x 16 b x 4 Banks, 166 MHz, TSOP-II-54; ki_fp_filters: TSOP?II*22.2x10.16mm*P0.8mm*; Footprint: Package_SO:TSOP-II-54_22.2x10.16mm_P0.8mm; Datasheet: https://www.winbond.com/resource-files/da00-w9812g6khc1.pdf
pins: 1 VDD, 2 DQ0, 3 VDDQ, 4 DQ1, 5 DQ2, 6 VSSQ, 7 DQ3, 8 DQ4, 9 VDDQ hidden, 10 DQ5, 11 DQ6, 12 VSSQ hidden, 13 DQ7, 14 VDD hidden, 15 LDQM, 16 ~{{WE}}, 17 ~{{CAS}}, 18 ~{{RAS}}, 19 ~{{CS}}, 20 BS0, 21 BS1, 22 A10/AP, 23 A0, 24 A1, 25 A2, 26 A3, 27 VDD hidden, 28 VSS, 29 A4, 30 A5, 31 A6, 32 A7, 33 A8, 34 A9, 35 A11, 36 NC hidden, 37 CKE, 38 CLK, 39 UDQM, 40 NC hidden, 41 VSS hidden, 42 DQ8, 43 VDDQ hidden, 44 DQ9, 45 DQ10, 46 VSSQ hidden, 47 DQ11, 48 DQ12, 49 VDDQ hidden, 50 DQ13, 51 DQ14, 52 VSSQ hidden, 53 DQ15, 54 VSS hidden

## W9812G6KH-6I
designator *  value W9812G6KH-6I  Reference: U
ki_keywords: DRAM MEMORY; ki_description: 128Mb Synchronous DRAM, 2 Mb x 16 b x 4 Banks, 166 MHz, TSOP-II-54; ki_fp_filters: TSOP?II*22.2x10.16mm*P0.8mm*; Footprint: Package_SO:TSOP-II-54_22.2x10.16mm_P0.8mm; Datasheet: https://www.winbond.com/resource-files/da00-w9812g6khc1.pdf
pins: 1 VDD, 2 DQ0, 3 VDDQ, 4 DQ1, 5 DQ2, 6 VSSQ, 7 DQ3, 8 DQ4, 9 VDDQ hidden, 10 DQ5, 11 DQ6, 12 VSSQ hidden, 13 DQ7, 14 VDD hidden, 15 LDQM, 16 ~{{WE}}, 17 ~{{CAS}}, 18 ~{{RAS}}, 19 ~{{CS}}, 20 BS0, 21 BS1, 22 A10/AP, 23 A0, 24 A1, 25 A2, 26 A3, 27 VDD hidden, 28 VSS, 29 A4, 30 A5, 31 A6, 32 A7, 33 A8, 34 A9, 35 A11, 36 NC hidden, 37 CKE, 38 CLK, 39 UDQM, 40 NC hidden, 41 VSS hidden, 42 DQ8, 43 VDDQ hidden, 44 DQ9, 45 DQ10, 46 VSSQ hidden, 47 DQ11, 48 DQ12, 49 VDDQ hidden, 50 DQ13, 51 DQ14, 52 VSSQ hidden, 53 DQ15, 54 VSS hidden

## W9812G6KH-75
designator *  value W9812G6KH-75  Reference: U
ki_keywords: DRAM MEMORY; ki_description: 128Mb Synchronous DRAM, 2 Mb x 16 b x 4 Banks, 133 MHz, TSOP-II-54; ki_fp_filters: TSOP?II*22.2x10.16mm*P0.8mm*; Footprint: Package_SO:TSOP-II-54_22.2x10.16mm_P0.8mm; Datasheet: https://www.winbond.com/resource-files/da00-w9812g6khc1.pdf
pins: 1 VDD, 2 DQ0, 3 VDDQ, 4 DQ1, 5 DQ2, 6 VSSQ, 7 DQ3, 8 DQ4, 9 VDDQ hidden, 10 DQ5, 11 DQ6, 12 VSSQ hidden, 13 DQ7, 14 VDD hidden, 15 LDQM, 16 ~{{WE}}, 17 ~{{CAS}}, 18 ~{{RAS}}, 19 ~{{CS}}, 20 BS0, 21 BS1, 22 A10/AP, 23 A0, 24 A1, 25 A2, 26 A3, 27 VDD hidden, 28 VSS, 29 A4, 30 A5, 31 A6, 32 A7, 33 A8, 34 A9, 35 A11, 36 NC hidden, 37 CKE, 38 CLK, 39 UDQM, 40 NC hidden, 41 VSS hidden, 42 DQ8, 43 VDDQ hidden, 44 DQ9, 45 DQ10, 46 VSSQ hidden, 47 DQ11, 48 DQ12, 49 VDDQ hidden, 50 DQ13, 51 DQ14, 52 VSSQ hidden, 53 DQ15, 54 VSS hidden